# EAGLE library part NRF52811 (library YzkLib)
Nordic Bluetooth 5.1 Direction Finding SoC / nRF52811
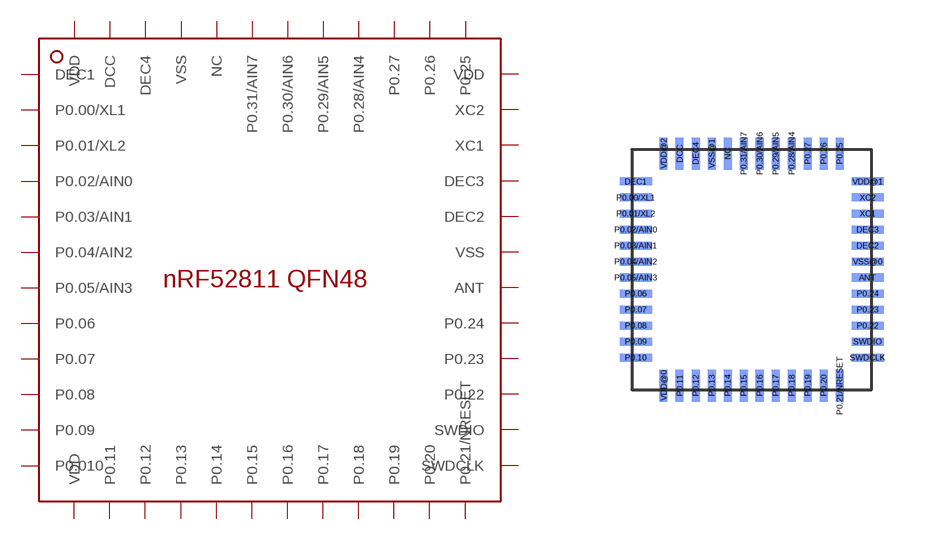
[diagram p1: symbol with the pads of NRF52811; footprint NRF52811]

Designator prefix -

## NRF52811  [NRF52811]
ANT  ANT  pas
DCC  DCC  pwr
DEC1  DEC1  pwr
DEC2  DEC2  pwr
DEC3  DEC3  pwr
DEC4  DEC4  pwr
NC  NC  nc
P0.00/XL1  P0.00/XL1
P0.01/XL2  P0.01/XL2
P0.02/AIN0  P0.02/AIN0
P0.03/AIN1  P0.03/AIN1
P0.04/AIN2  P0.04/AIN2
P0.05/AIN3  P0.05/AIN3
P0.06  P0.06
P0.07  P0.07
P0.08  P0.08
P0.09  P0.09
P0.10  P0.010
P0.11  P0.11
P0.12  P0.12
P0.13  P0.13
P0.14  P0.14
P0.15  P0.15
P0.16  P0.16
P0.17  P0.17
P0.18  P0.18
P0.19  P0.19
P0.20  P0.20
P0.21/NRESET  P0.21/NRESET
P0.22  P0.22
P0.23  P0.23
P0.24  P0.24
P0.25  P0.25
P0.26  P0.26
P0.27  P0.27
P0.28/AIN4  P0.28/AIN4
P0.29/AIN5  P0.29/AIN5
P0.30/AIN6  P0.30/AIN6
P0.31/AIN7  P0.31/AIN7
SWDCLK  SWDCLK  in
SWDIO  SWDIO
VDD@0  VDD  pwr
VDD@1  VDD  pwr
VDD@2  VDD  pwr
VSS@0  VSS  pwr
VSS@1  VSS  pwr
XC1  XC1  in
XC2  XC2  in

## Footprint NRF52811 (pad centres in mm)
smd 0.8 x 0.2 bottom: ANT 2.9,-0.2; DEC1 -2.9,2.2; DEC2 2.9,0.6; DEC3 2.9,1; P0.00/XL1 -2.9,1.8; P0.01/XL2 -2.9,1.4; P0.02/AIN0 -2.9,1; P0.03/AIN1 -2.9,0.6; P0.04/AIN2 -2.9,0.2; P0.05/AIN3 -2.9,-0.2; P0.06 -2.9,-0.6; P0.07 -2.9,-1; P0.08 -2.9,-1.4; P0.09 -2.9,-1.8; P0.10 -2.9,-2.2; P0.22 2.9,-1.4; P0.23 2.9,-1; P0.24 2.9,-0.6; SWDCLK 2.9,-2.2; SWDIO 2.9,-1.8; VDD@1 2.9,2.2; VSS@0 2.9,0.2; XC1 2.9,1.4; XC2 2.9,1.8
smd 0.2 x 0.8 bottom: DCC -1.8,2.9; DEC4 -1.4,2.9; NC -0.6,2.9; P0.11 -1.8,-2.9; P0.12 -1.4,-2.9; P0.13 -1,-2.9; P0.14 -0.6,-2.9; P0.15 -0.2,-2.9; P0.16 0.2,-2.9; P0.17 0.6,-2.9; P0.18 1,-2.9; P0.19 1.4,-2.9; P0.20 1.8,-2.9; P0.21/NRESET 2.2,-2.9; P0.25 2.2,2.9; P0.26 1.8,2.9; P0.27 1.4,2.9; P0.28/AIN4 1,2.9; P0.29/AIN5 0.6,2.9; P0.30/AIN6 0.2,2.9; P0.31/AIN7 -0.2,2.9; VDD@0 -2.2,-2.9; VDD@2 -2.2,2.9; VSS@1 -1,2.9